# Altium integrated library Texas Instruments Interface I2C.IntLib: 424 symbols (part 22 of 23)
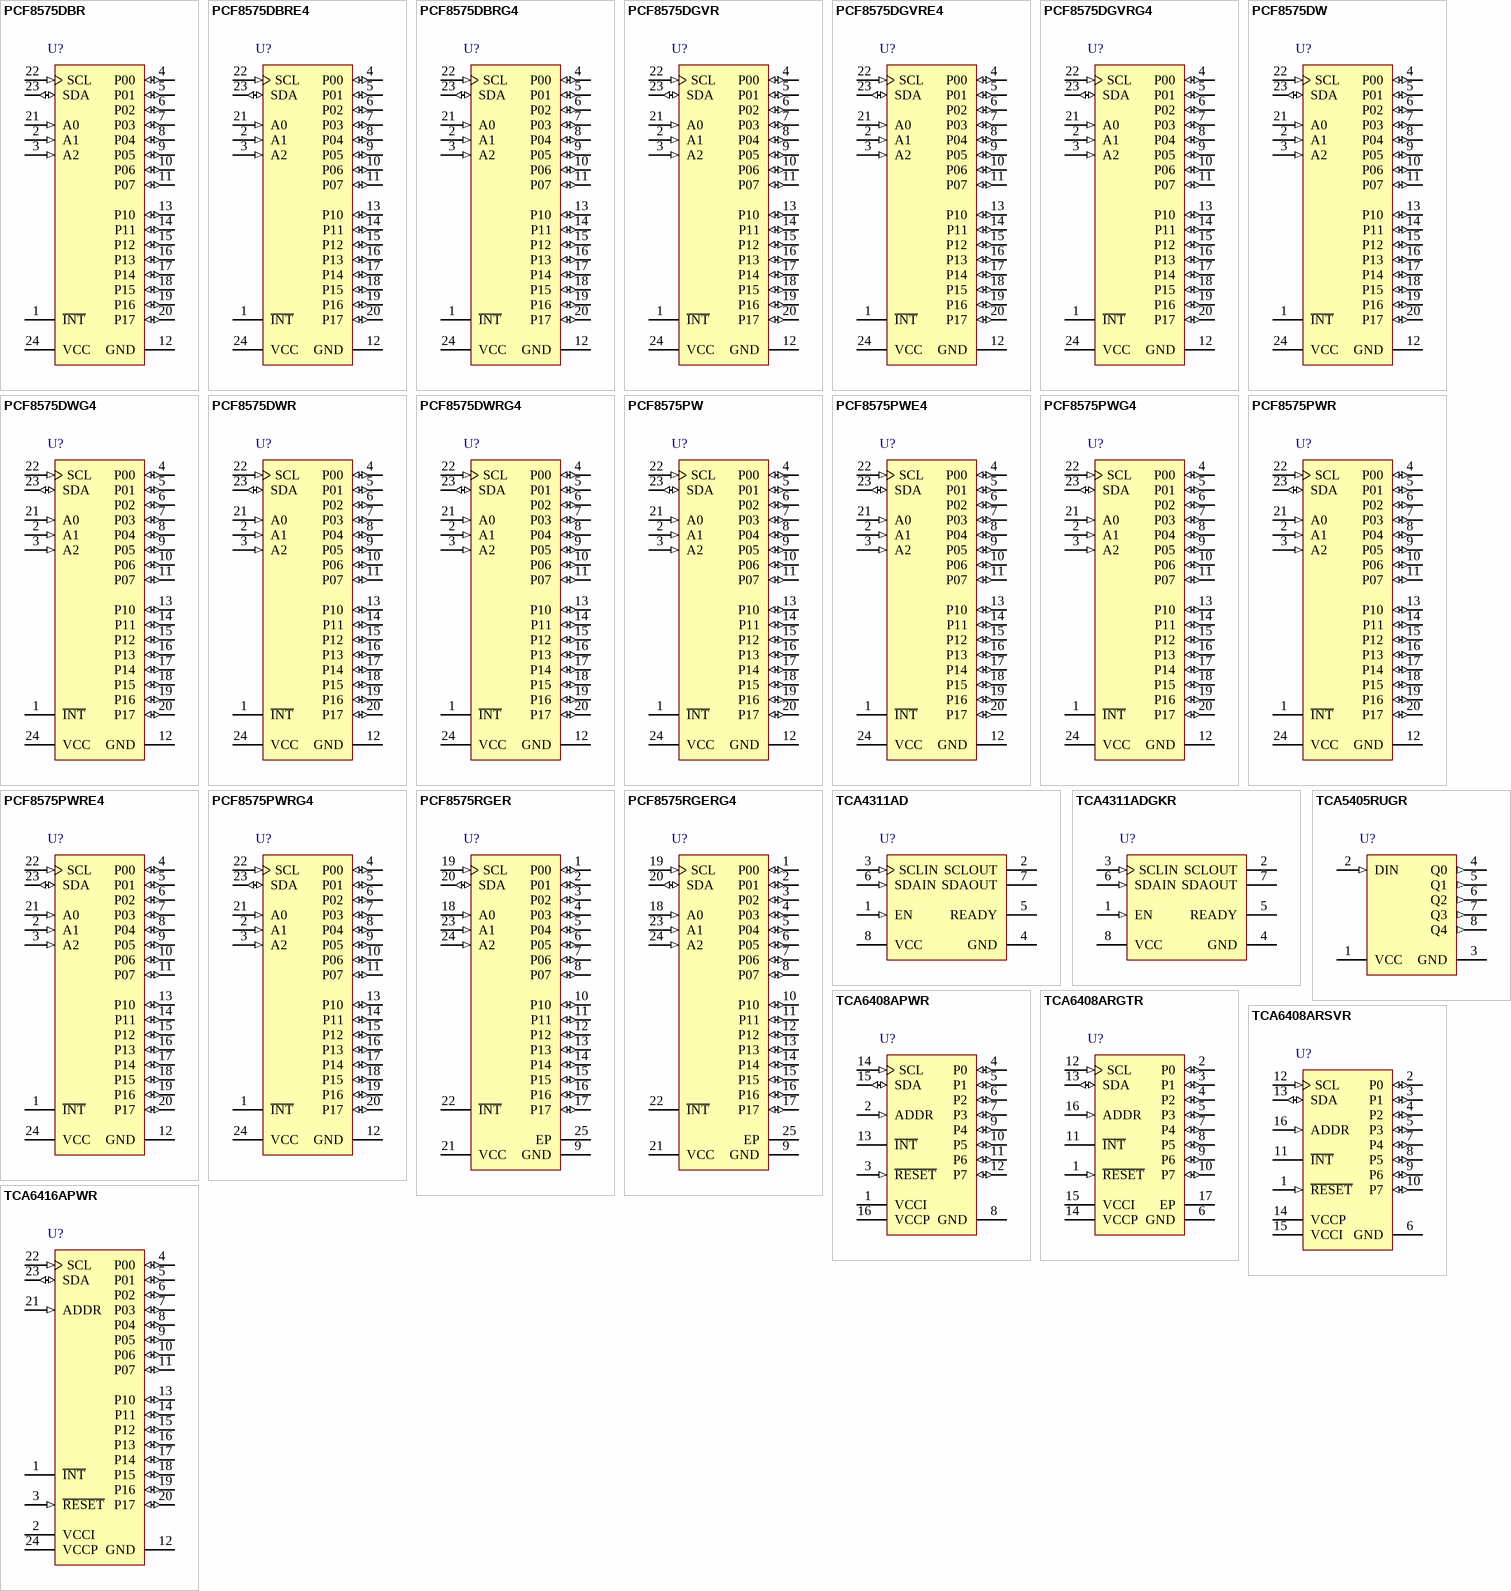
[diagram p34: symbols PCF8575DBR to TCA6416APWR]

## TCA6416APWR
designator U?
Low-Voltage 16-Bit I2C and SMBus I/O Expander, 16 Outputs, 1.65 to 5.5 V, -40 to 85 degC, 24-pin TSSOP (PW), Green (RoHS & no Sb/Br); Manufacturer: Texas Instruments; PartNumber: TCA6416APWR; SubFamily: I2C IO Expander; No. of Outputs: 16; Interrupt Output: Yes; fSCLK(Max)(MHz): 400; VCC(Min)(V): 1.65; VCC(Max)(V): 5.5; I2C Address: 0100 00x; DatasheetVersion: SCPS194A; PackageVersion: revG, Feb-2011; PackageReference: PW24; PackageDescription: 24-Pin Thin Small Outline Package 0.65 mm Pitch; Supplier 1: Arrow; Supplier Part Number 1: 47581856S8237284N7713; Supplier 2: Digi-Key; Supplier Part Number 2: 296-24536-2-ND; Supplier 3: Digi-Key; Supplier Part Number 3: 296-24536-1-ND; Supplier 4: Digi-Key; Supplier Part Number 4: 296-24536-6-ND; Supplier 5: Farnell; Supplier Part Number 5: 2101304; Supplier 6: Newark; Supplier Part Number 6: 10R6151; Supplier 7: Mouser; Supplier Part Number 7: 595-TCA6416APWR; Eco-Plan: Green (RoHS & no Sb/Br); Reset Input: Yes; Max Frequency(kHz): 400; # of I/Os: 16; Vcc range(V): 1.65 to 5.5; Low Power: Yes; Configuration Registers: Yes; 5V Tolerant I/O: Yes; Push-Pull I/O Type: Yes; Mounting Technology: Surface Mount; Code_JEDEC: MO-153; ComponentLink1Description: Datasheet; ComponentLink1URL: http://www.ti.com/general/docs/lit/getliterature.tsp?genericPartNumber=TCA6416A&fileType=pdf; ComponentLink2Description: Package Specification; ComponentLink2URL: http://www.ti.com/litv/pdf/mpds177g
footprint PW24_N (TSOP, 24-Leads, Body 7.8x4.4mm, Pitch 0.65mm, IPC Medium Density)
footprint PW24_L (TSOP, 24-Leads, Body 7.8x4.4mm, Pitch 0.65mm, IPC High Density)
footprint PW24_M (TSOP, 24-Leads, Body 7.8x4.4mm, Pitch 0.65mm, IPC Low Density)
pins: 1 ~{INT} (oc) "Interrupt output. Connect to VCCl or Vccp through a pullup resistor.", 2 VCCI (power) "Supply voltage of I2C bus. Connect directly to the VCC of the external I2C master. Provides voltage leveltranslation", 3 ~{RESET} (in) "Active-low reset input. Connect to VCCI through a pullup resistor, if no active connection is used.", 4 P00 (io) "P-port input/output. (Push-pull design structure). At power-on, P00 is configured as an input.", 5 P01 (io) "P-port input/output. (Push-pull design structure). At power-on, P01 is configured as an input.", 6 P02 (io) "P-port input/output. (Push-pull design structure). At power-on, P02 is configured as an input.", 7 P03 (io) "P-port input/output. (Push-pull design structure). At power-on, P03 is configured as an input.", 8 P04 (io) "P-port input/output. (Push-pull design structure). At power-on, P04 is configured as an input.", 9 P05 (io) "P-port input/output. (Push-pull design structure). At power-on, P05 is configured as an input.", 10 P06 (io) "P-port input/output. (Push-pull design structure). At power-on, P06 is configured as an input.", 11 P07 (io) "P-port input/output. (Push-pull design structure). At power-on, P07 is configured as an input.", 12 GND (power) "Ground", 13 P10 (io) "P-port input/output. (Push-pull design structure). At power-on, P10 is configured as an input.", 14 P11 (io) "P-port input/output. (Push-pull design structure). At power-on, P11 is configured as an input.", 15 P12 (io) "P-port input/output. (Push-pull design structure). At power-on, P12 is configured as an input.", 16 P13 (io) "P-port input/output. (Push-pull design structure). At power-on, P13 is configured as an input.", 17 P14 (io) "P-port input/output. (Push-pull design structure). At power-on, P14 is configured as an input.", 18 P15 (io) "P-port input/output. (Push-pull design structure). At power-on, P15 is configured as an input.", 19 P16 (io) "P-port input/output. (Push-pull design structure). At power-on, P16 is configured as an input.", 20 P17 (io) "P-port input/output. (Push-pull design structure). At power-on, P17 is configured as an input.", 21 ADDR (in) "Address input. Connect directly to VCCP or ground", 22 SCL (in) "Serial clock bus. Connect to VCCI through a pullup resistor.", 23 SDA (io) "Serial data bus. Connect to VCCI through a pullup resistor.", 24 VCCP (power) "Supply voltage of TCA6416A for P port"

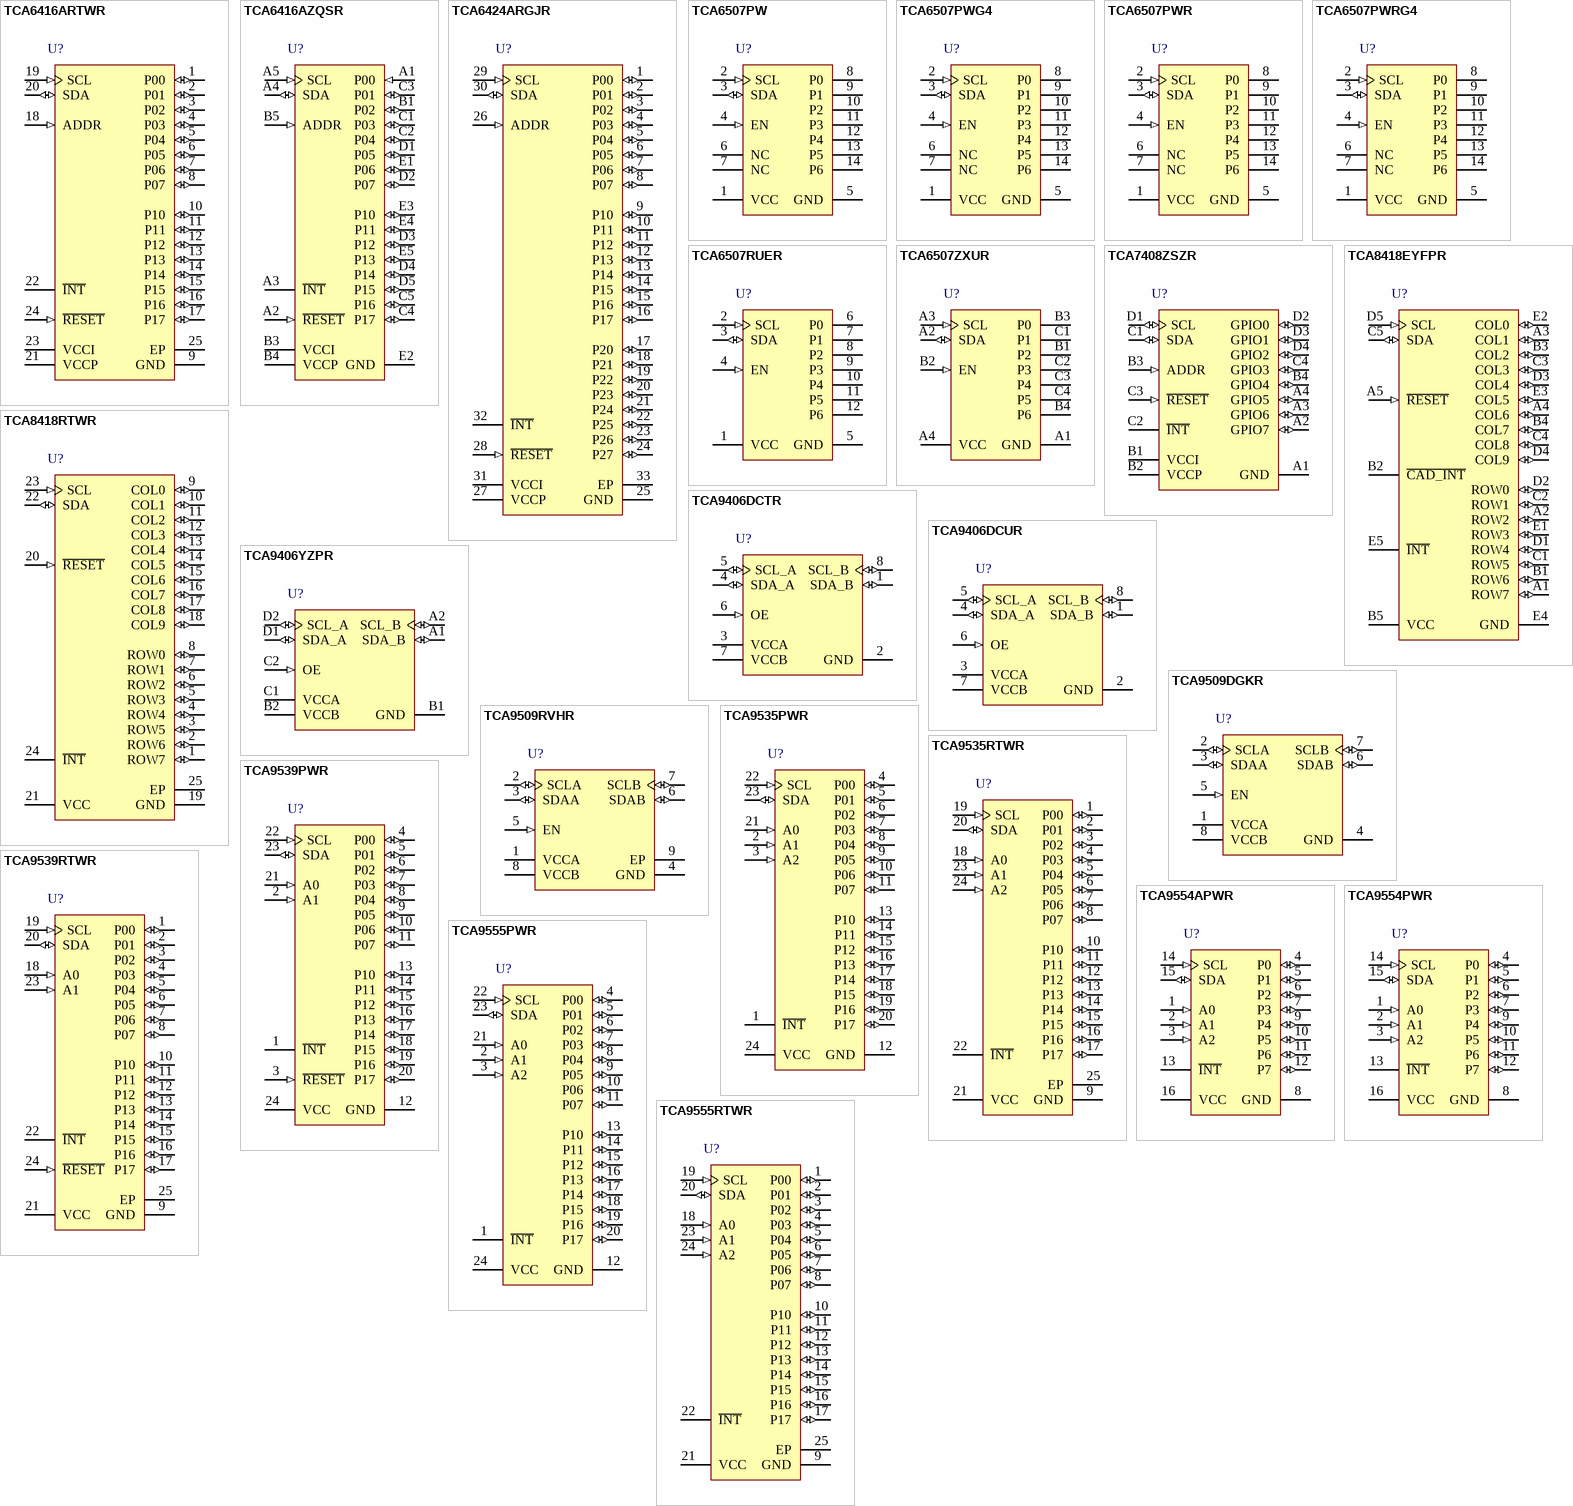
[diagram p13: symbols TCA6416ARTWR to TCA9555RTWR]

## TCA6416ARTWR
designator U?
Low-Voltage 16-Bit I2C and SMBus I/O Expander, 16 Outputs, 1.65 to 5.5 V, -40 to 85 degC, 24-pin QFN (RTW), Green (RoHS & no Sb/Br); Manufacturer: Texas Instruments; PartNumber: TCA6416ARTWR; SubFamily: I2C IO Expander; No. of Outputs: 16; Interrupt Output: Yes; fSCLK(Max)(MHz): 400; VCC(Min)(V): 1.65; VCC(Max)(V): 5.5; I2C Address: 0100 00x; DatasheetVersion: SCPS194A; PackageVersion: Jul-2004; PackageReference: RTW24-2450X2450TP; PackageDescription: 24-Lead Plastic Quad FlatPack, No-Lead, 4x4x0.8mm Body [WQFN]; Supplier 1: Digi-Key; Supplier Part Number 1: 296-24826-2-ND; Supplier 2: Digi-Key; Supplier Part Number 2: 296-24826-1-ND; Supplier 3: Digi-Key; Supplier Part Number 3: 296-24826-6-ND; Supplier 4: Newark; Supplier Part Number 4: 24R9976; Supplier 5: Mouser; Supplier Part Number 5: 595-TCA6416ARTWR; Eco-Plan: Green (RoHS & no Sb/Br); Reset Input: Yes; Max Frequency(kHz): 400; # of I/Os: 16; Vcc range(V): 1.65 to 5.5; Low Power: Yes; Configuration Registers: Yes; 5V Tolerant I/O: Yes; Push-Pull I/O Type: Yes; Mounting Technology: Surface Mount; Code_JEDEC: MO-220; ComponentLink1Description: Datasheet; ComponentLink1URL: http://www.ti.com/general/docs/lit/getliterature.tsp?genericPartNumber=TCA6416A&fileType=pdf
footprint RTW24-2450X2450TP (QFN, 24-Leads, Body 4x4mm, Pitch 0.5mm, Thermal Pad 2.45x2.45mm, TI Recommended)
pins: 1 P00 (io) "P-port input/output. (Push-pull design structure). At power-on, P00 is configured as an input.", 2 P01 (io) "P-port input/output. (Push-pull design structure). At power-on, P01 is configured as an input.", 3 P02 (io) "P-port input/output. (Push-pull design structure). At power-on, P02 is configured as an input.", 4 P03 (io) "P-port input/output. (Push-pull design structure). At power-on, P03 is configured as an input.", 5 P04 (io) "P-port input/output. (Push-pull design structure). At power-on, P04 is configured as an input.", 6 P05 (io) "P-port input/output. (Push-pull design structure). At power-on, P05 is configured as an input.", 7 P06 (io) "P-port input/output. (Push-pull design structure). At power-on, P06 is configured as an input.", 8 P07 (io) "P-port input/output. (Push-pull design structure). At power-on, P07 is configured as an input.", 9 GND (power) "Ground", 10 P10 (io) "P-port input/output. (Push-pull design structure). At power-on, P10 is configured as an input.", 11 P11 (io) "P-port input/output. (Push-pull design structure). At power-on, P11 is configured as an input.", 12 P12 (io) "P-port input/output. (Push-pull design structure). At power-on, P12 is configured as an input.", 13 P13 (io) "P-port input/output. (Push-pull design structure). At power-on, P13 is configured as an input.", 14 P14 (io) "P-port input/output. (Push-pull design structure). At power-on, P14 is configured as an input.", 15 P15 (io) "P-port input/output. (Push-pull design structure). At power-on, P15 is configured as an input.", 16 P16 (io) "P-port input/output. (Push-pull design structure). At power-on, P16 is configured as an input.", 17 P17 (io) "P-port input/output. (Push-pull design structure). At power-on, P17 is configured as an input.", 18 ADDR (in) "Address input. Connect directly to VCCP or ground", 19 SCL (in) "Serial clock bus. Connect to VCCI through a pullup resistor.", 20 SDA (io) "Serial data bus. Connect to VCCI through a pullup resistor.", 21 VCCP (power) "Supply voltage of TCA6416A for P port", 22 ~{INT} (oc) "Interrupt output. Connect to VCCl or Vccp through a pullup resistor.", 23 VCCI (power) "Supply voltage of I2C bus. Connect directly to the VCC of the external I2C master. Provides voltage leveltranslation", 24 ~{RESET} (in) "Active-low reset input. Connect to VCCI through a pullup resistor, if no active connection is used.", 25 EP (power)

## TCA6416AZQSR
designator U?
Low-Voltage 16-Bit I2C and SMBus I/O Expander, 16 Outputs, 1.65 to 5.5 V, -40 to 85 degC, 24-pin BGA MICROSTAR JUNIOR (ZQS), Green (RoHS & no Sb/Br); Manufacturer: Texas Instruments; PartNumber: TCA6416AZQSR; SubFamily: I2C IO Expander; No. of Outputs: 16; Interrupt Output: Yes; fSCLK(Max)(MHz): 400; VCC(Min)(V): 1.65; VCC(Max)(V): 5.5; I2C Address: 0100 00x; DatasheetVersion: SCPS194A; PackageVersion: revA, Sep-2004; PackageReference: ZQS24; PackageDescription: 24-Ball Plastic Ball Grid Array, 3 x 3 mm Body, 0.5 mm Pitch, Pb-Free; Supplier 1: Digi-Key; Supplier Part Number 1: 296-24559-2-ND; Supplier 2: Digi-Key; Supplier Part Number 2: 296-24559-1-ND; Supplier 3: Digi-Key; Supplier Part Number 3: 296-24559-6-ND; Supplier 4: Mouser; Supplier Part Number 4: 595-TCA6416AZQSR; Eco-Plan: Green (RoHS & no Sb/Br); Reset Input: Yes; Max Frequency(kHz): 400; # of I/Os: 16; Vcc range(V): 1.65 to 5.5; Low Power: Yes; Configuration Registers: Yes; 5V Tolerant I/O: Yes; Push-Pull I/O Type: Yes; Mounting Technology: Surface Mount; Code_JEDEC: MO-225; ComponentLink1Description: Datasheet; ComponentLink1URL: http://www.ti.com/general/docs/lit/getliterature.tsp?genericPartNumber=TCA6416A&fileType=pdf; ComponentLink2Description: Package Specification; ComponentLink2URL: http://www.ti.com/litv/pdf/mpbg127b
footprint ZQS24 (BGA, 24-Leads, Body 3x3mm, Pitch 0.5mm)
pins: A1 P00 (in) "P-port input/output. (Push-pull design structure). At power-on, P00 is configured as an input.", A2 ~{RESET} (in) "Active-low reset input. Connect to VCCI through a pullup resistor, if no active connection is used.", A3 ~{INT} (oc) "Interrupt output. Connect to VCCl or Vccp through a pullup resistor.", A4 SDA (io) "Serial data bus. Connect to VCCI through a pullup resistor.", A5 SCL (in) "Serial clock bus. Connect to VCCI through a pullup resistor.", B1 P02 (io) "P-port input/output. (Push-pull design structure). At power-on, P02 is configured as an input.", B3 VCCI (power) "Supply voltage of I2C bus. Connect directly to the VCC of the external I2C master. Provides voltage leveltranslation", B4 VCCP (power) "Supply voltage of TCA6416A for P port", B5 ADDR (in) "Address input. Connect directly to VCCPor ground", C1 P03 (io) "P-port input/output. (Push-pull design structure). At power-on, P03 is configured as an input.", C2 P04 (io) "P-port input/output. (Push-pull design structure). At power-on, P04 is configured as an input.", C3 P01 (io) "P-port input/output. (Push-pull design structure). At power-on, P01 is configured as an input.", C4 P17 (io) "P-port input/output. (Push-pull design structure). At power-on, P17 is configured as an input.", C5 P16 (io) "P-port input/output. (Push-pull design structure). At power-on, P16 is configured as an input.", D1 P05 (io) "P-port input/output. (Push-pull design structure). At power-on, P05 is configured as an input.", D2 P07 (io) "P-port input/output. (Push-pull design structure). At power-on, P07 is configured as an input.", D3 P12 (io) "P-port input/output. (Push-pull design structure). At power-on, P12 is configured as an input.", D4 P14 (io) "P-port input/output. (Push-pull design structure). At power-on, P14 is configured as an input.", D5 P15 (io) "P-port input/output. (Push-pull design structure). At power-on, P15 is configured as an input.", E1 P06 (io) "P-port input/output. (Push-pull design structure). At power-on, P06 is configured as an input.", E2 GND (power) "Ground", E3 P10 (io) "P-port input/output. (Push-pull design structure). At power-on, P10 is configured as an input.", E4 P11 (io) "P-port input/output. (Push-pull design structure). At power-on, P11 is configured as an input.", E5 P13 (io) "P-port input/output. (Push-pull design structure). At power-on, P13 is configured as an input."

## TCA6424ARGJR
designator U?
Low-Voltage 24-Bit I2C and SMBus I/O Expander, 24 Outputs, 1.65 to 5.5 V, -40 to 85 degC, 32-pin UQFN (RGJ), Green (RoHS & no Sb/Br); Manufacturer: Texas Instruments; PartNumber: TCA6424ARGJR; SubFamily: I2C IO Expander; No. of Outputs: 24; Interrupt Output: Yes; VCC(Min)(V): 1.65; VCC(Max)(V): 5.5; Max Frequency(kHz): 400; I2C Address: 0100 01x; DatasheetVersion: SCPS193B; PackageVersion: revD, Apr-2011; PackageReference: RGJ32-3150X3150TP; PackageDescription: 32-Pin Plastic Quad Flatpack No-Lead, 5 x 5 mm Body, 0.5 mm Pitch; Supplier 1: Digi-Key; Supplier Part Number 1: 296-27844-2-ND; Supplier 2: Digi-Key; Supplier Part Number 2: 296-27844-1-ND; Supplier 3: Digi-Key; Supplier Part Number 3: 296-27844-6-ND; Supplier 4: Farnell; Supplier Part Number 4: 1863866; Supplier 5: Newark; Supplier Part Number 5: 01T0713; Supplier 6: Mouser; Supplier Part Number 6: 595-TCA6424ARGJR; Eco-Plan: Green (RoHS & no Sb/Br); Reset Input: Yes; # of I/Os: 24; Vcc range(V): 1.65 to 5.5; Low Power: Yes; Configuration Registers: Yes; 5V Tolerant I/O: Yes; Push-Pull I/O Type: Yes; Mounting Technology: Surface Mount; Code_JEDEC: MO-248-UHHD-1*; ComponentLink1Description: Datasheet; ComponentLink1URL: http://www.ti.com/general/docs/lit/getliterature.tsp?genericPartNumber=TCA6424A&fileType=pdf; ComponentLink2Description: Package Specification; ComponentLink2URL: http://www.ti.com/litv/pdf/mpqf183c
footprint RGJ32-3150X3150TP (QFN, 32-Leads, Body 5x5mm, Pitch 0.5mm, Thermal Pad 3.15x3.15mm, TI Recommended)
pins: 1 P00 (io) "P-port input/output (push-pull design structure). At power on, P00 is configured as an input.", 2 P01 (io) "P-port input/output (push-pull design structure). At power on, P01 is configured as an input.", 3 P02 (io) "P-port input/output (push-pull design structure). At power on, P02 is configured as an input.", 4 P03 (io) "P-port input/output (push-pull design structure). At power on, P03 is configured as an input.", 5 P04 (io) "P-port input/output (push-pull design structure). At power on, P04 is configured as an input.", 6 P05 (io) "P-port input/output (push-pull design structure). At power on, P05 is configured as an input.", 7 P06 (io) "P-port input/output (push-pull design structure). At power on, P06 is configured as an input.", 8 P07 (io) "P-port input/output (push-pull design structure). At power on, P07 is configured as an input.", 9 P10 (io) "P-port input/output (push-pull design structure). At power on, P10 is configured as an input.", 10 P11 (io) "P-port input/output (push-pull design structure). At power on, P11 is configured as an input.", 11 P12 (io) "P-port input/output (push-pull design structure). At power on, P12 is configured as an input.", 12 P13 (io) "P-port input/output (push-pull design structure). At power on, P13 is configured as an input.", 13 P14 (io) "P-port input/output (push-pull design structure). At power on, P14 is configured as an input.", 14 P15 (io) "P-port input/output (push-pull design structure). At power on, P15 is configured as an input.", 15 P16 (io) "P-port input/output (push-pull design structure). At power on, P16 is configured as an input.", 16 P17 (io) "P-port input/output (push-pull design structure). At power on, P17 is configured as an input.", 17 P20 (io) "P-port input/output (push-pull design structure). At power on, P20 is configured as an input.", 18 P21 (io) "P-port input/output (push-pull design structure). At power on, P21 is configured as an input.", 19 P22 (io) "P-port input/output (push-pull design structure). At power on, P22 is configured as an input.", 20 P23 (io) "P-port input/output (push-pull design structure). At power on, P23 is configured as an input.", 21 P24 (io) "P-port input/output (push-pull design structure). At power on, P24 is configured as an input.", 22 P25 (io) "P-port input/output (push-pull design structure). At power on, P25 is configured as an input.", 23 P26 (io) "P-port input/output (push-pull design structure). At power on, P26 is configured as an input.", 24 P27 (io) "P-port input/output (push-pull design structure). At power on, P27 is configured as an input.", 25 GND (power) "Ground", 26 ADDR (in) "Address input. Connect directly to VCCP or ground.", 27 VCCP (power) "Supply voltage of TCA6424A for P port", 28 ~{RESET} (in) "Active-low reset input. Connect to VCCI  through a pullup resistor, if no active connection is used.", 29 SCL (in) "Serial clock bus. Connect to VCCI through a pullup resistor.", 30 SDA (io) "Serial data bus. Connect to VCCI through a pullup resistor.", 31 VCCI (power) "Supply voltage of I2C bus. Connect directly to the VCC of the external I2C master. Provides voltage-level translation.", 32 ~{INT} (oc) "Interrupt output. Connect to VCCI through a pullup resistor.", 33 EP "Exposed thermal pad"

## TCA6507PW
designator U?
Low-Voltage 7-Bit I2C and SMBus LED Driver with Intensity Control and Shutdown, 1.65 to 3.6 V, -40 to 85 degC, 14-pin TSSOP (PW), Green (RoHS & no Sb/Br); Manufacturer: Texas Instruments; PartNumber: TCA6507PW; SubFamily: I2C Special Function; fSCLK(Max)(MHz): 400; VCC(Min)(V): 1.65; VCC(Max)(V): 3.6; I2C Address: 1000101; Enable Pin: Yes; Rating: Catalog; DatasheetVersion: SCPS164B; PackageVersion: revG, Feb-2011; PackageReference: PW14; PackageDescription: 14-Pin Thin Small Outline Package 0.65 mm Pitch; Supplier 1: Digi-Key; Supplier Part Number 1: TCA6507PW-ND; Supplier 2: Farnell; Supplier Part Number 2: 1647813; Supplier 3: Newark; Supplier Part Number 3: 54M7301; Supplier 4: Mouser; Supplier Part Number 4: 595-TCA6507PW; Eco-Plan: Green (RoHS & no Sb/Br); Max Frequency(kHz): 400; Function: LED Driver; Vcc range(V): 1.65 to 3.6; Open Drain I/O Type: Yes; 5V Tolerant I/O: Yes; On-Chip Power-on-Reset: Yes; Mounting Technology: Surface Mount; Code_JEDEC: MO-153; ComponentLink1Description: Datasheet; ComponentLink1URL: http://www.ti.com/general/docs/lit/getliterature.tsp?genericPartNumber=TCA6507&fileType=pdf; ComponentLink2Description: Package Specification; ComponentLink2URL: http://www.ti.com/litv/pdf/mpds177g
footprint PW14_N (TSOP, 14-Leads, Body 5x4.4mm, Pitch 0.65mm, IPC Medium Density)
footprint PW14_L (TSOP, 14-Leads, Body 5x4.4mm, Pitch 0.65mm, IPC High Density)
footprint PW14_M (TSOP, 14-Leads, Body 5x4.4mm, Pitch 0.65mm, IPC Low Density)
pins: 1 VCC (power) "Supply voltage of I2C registers, oscillator and control logic. Connect directly to VCC of the external I2C master. Provides voltage-level translation.", 2 SCL (in) "Serial clock bus. Connect to VCC through a pullup resistor", 3 SDA (io) "Serial data bus. Connect to VCC through a pullup resistor", 4 EN (in) "Enable input. If set to low, it puts the TCA6507 in shutdown mode and resets the internal registers and I2C/SMBus state machine to their default states", 5 GND (power) "Ground", 6 NC "No connection.", 7 NC "No connection.", 8 P0 (oc) "P-port output 0. Open-drain design structure.", 9 P1 (oc) "P-port output 1. Open-drain design structure.", 10 P2 (oc) "P-port output 2. Open-drain design structure.", 11 P3 (oc) "P-port output 3. Open-drain design structure.", 12 P4 (oc) "P-port output 4. Open-drain design structure.", 13 P5 (oc) "P-port output 5. Open-drain design structure.", 14 P6 (oc) "P-port output 6. Open-drain design structure."

## TCA6507PWG4
designator U?
Low-Voltage 7-Bit I2C and SMBus LED Driver with Intensity Control and Shutdown, 1.65 to 3.6 V, -40 to 85 degC, 14-pin TSSOP (PW), Green (RoHS & no Sb/Br); Manufacturer: Texas Instruments; PartNumber: TCA6507PWG4; SubFamily: I2C Special Function; fSCLK(Max)(MHz): 400; VCC(Min)(V): 1.65; VCC(Max)(V): 3.6; I2C Address: 1000101; Enable Pin: Yes; Rating: Catalog; DatasheetVersion: SCPS164B; PackageVersion: revG, Feb-2011; PackageReference: PW14; PackageDescription: 14-Pin Thin Small Outline Package 0.65 mm Pitch; Supplier 1: Digi-Key; Supplier Part Number 1: TCA6507PWG4-ND; Supplier 2: Mouser; Supplier Part Number 2: 595-TCA6507PWG4; Eco-Plan: Green (RoHS & no Sb/Br); Max Frequency(kHz): 400; Function: LED Driver; Vcc range(V): 1.65 to 3.6; Open Drain I/O Type: Yes; 5V Tolerant I/O: Yes; On-Chip Power-on-Reset: Yes; Mounting Technology: Surface Mount; Code_JEDEC: MO-153; ComponentLink1Description: Datasheet; ComponentLink1URL: http://www.ti.com/general/docs/lit/getliterature.tsp?genericPartNumber=TCA6507&fileType=pdf; ComponentLink2Description: Package Specification; ComponentLink2URL: http://www.ti.com/litv/pdf/mpds177g
footprint PW14_N (TSOP, 14-Leads, Body 5x4.4mm, Pitch 0.65mm, IPC Medium Density)
footprint PW14_L (TSOP, 14-Leads, Body 5x4.4mm, Pitch 0.65mm, IPC High Density)
footprint PW14_M (TSOP, 14-Leads, Body 5x4.4mm, Pitch 0.65mm, IPC Low Density)
pins: 1 VCC (power) "Supply voltage of I2C registers, oscillator and control logic. Connect directly to VCC of the external I2C master. Provides voltage-level translation.", 2 SCL (in) "Serial clock bus. Connect to VCC through a pullup resistor", 3 SDA (io) "Serial data bus. Connect to VCC through a pullup resistor", 4 EN (in) "Enable input. If set to low, it puts the TCA6507 in shutdown mode and resets the internal registers and I2C/SMBus state machine to their default states", 5 GND (power) "Ground", 6 NC "No connection.", 7 NC "No connection.", 8 P0 (oc) "P-port output 0. Open-drain design structure.", 9 P1 (oc) "P-port output 1. Open-drain design structure.", 10 P2 (oc) "P-port output 2. Open-drain design structure.", 11 P3 (oc) "P-port output 3. Open-drain design structure.", 12 P4 (oc) "P-port output 4. Open-drain design structure.", 13 P5 (oc) "P-port output 5. Open-drain design structure.", 14 P6 (oc) "P-port output 6. Open-drain design structure."

## TCA6507PWR
designator U?
Low-Voltage 7-Bit I2C and SMBus LED Driver with Intensity Control and Shutdown, 1.65 to 3.6 V, -40 to 85 degC, 14-pin TSSOP (PW), Green (RoHS & no Sb/Br); Manufacturer: Texas Instruments; PartNumber: TCA6507PWR; SubFamily: I2C Special Function; fSCLK(Max)(MHz): 400; VCC(Min)(V): 1.65; VCC(Max)(V): 3.6; I2C Address: 1000101; Enable Pin: Yes; Rating: Catalog; DatasheetVersion: SCPS164B; PackageVersion: revG, Feb-2011; PackageReference: PW14; PackageDescription: 14-Pin Thin Small Outline Package 0.65 mm Pitch; Supplier 1: Digi-Key; Supplier Part Number 1: 296-22777-2-ND; Supplier 2: Digi-Key; Supplier Part Number 2: 296-22777-1-ND; Supplier 3: Digi-Key; Supplier Part Number 3: 296-22777-6-ND; Supplier 4: Newark; Supplier Part Number 4: 54M7302; Supplier 5: Mouser; Supplier Part Number 5: 595-TCA6507PWR; Eco-Plan: Green (RoHS & no Sb/Br); Max Frequency(kHz): 400; Function: LED Driver; Vcc range(V): 1.65 to 3.6; Open Drain I/O Type: Yes; 5V Tolerant I/O: Yes; On-Chip Power-on-Reset: Yes; Mounting Technology: Surface Mount; Code_JEDEC: MO-153; ComponentLink1Description: Datasheet; ComponentLink1URL: http://www.ti.com/general/docs/lit/getliterature.tsp?genericPartNumber=TCA6507&fileType=pdf; ComponentLink2Description: Package Specification; ComponentLink2URL: http://www.ti.com/litv/pdf/mpds177g
footprint PW14_N (TSOP, 14-Leads, Body 5x4.4mm, Pitch 0.65mm, IPC Medium Density)
footprint PW14_L (TSOP, 14-Leads, Body 5x4.4mm, Pitch 0.65mm, IPC High Density)
footprint PW14_M (TSOP, 14-Leads, Body 5x4.4mm, Pitch 0.65mm, IPC Low Density)
pins: 1 VCC (power) "Supply voltage of I2C registers, oscillator and control logic. Connect directly to VCC of the external I2C master. Provides voltage-level translation.", 2 SCL (in) "Serial clock bus. Connect to VCC through a pullup resistor", 3 SDA (io) "Serial data bus. Connect to VCC through a pullup resistor", 4 EN (in) "Enable input. If set to low, it puts the TCA6507 in shutdown mode and resets the internal registers and I2C/SMBus state machine to their default states", 5 GND (power) "Ground", 6 NC "No connection.", 7 NC "No connection.", 8 P0 (oc) "P-port output 0. Open-drain design structure.", 9 P1 (oc) "P-port output 1. Open-drain design structure.", 10 P2 (oc) "P-port output 2. Open-drain design structure.", 11 P3 (oc) "P-port output 3. Open-drain design structure.", 12 P4 (oc) "P-port output 4. Open-drain design structure.", 13 P5 (oc) "P-port output 5. Open-drain design structure.", 14 P6 (oc) "P-port output 6. Open-drain design structure."

## TCA6507PWRG4
designator U?
Low-Voltage 7-Bit I2C and SMBus LED Driver with Intensity Control and Shutdown, 1.65 to 3.6 V, -40 to 85 degC, 14-pin TSSOP (PW), Green (RoHS & no Sb/Br); Manufacturer: Texas Instruments; PartNumber: TCA6507PWRG4; SubFamily: I2C Special Function; fSCLK(Max)(MHz): 400; VCC(Min)(V): 1.65; VCC(Max)(V): 3.6; I2C Address: 1000101; Enable Pin: Yes; Rating: Catalog; DatasheetVersion: SCPS164B; PackageVersion: revG, Feb-2011; PackageReference: PW14; PackageDescription: 14-Pin Thin Small Outline Package 0.65 mm Pitch; Supplier 1: Digi-Key; Supplier Part Number 1: TCA6507PWRG4-ND; Supplier 2: Mouser; Supplier Part Number 2: 595-TCA6507PWRG4; Eco-Plan: Green (RoHS & no Sb/Br); Max Frequency(kHz): 400; Function: LED Driver; Vcc range(V): 1.65 to 3.6; Open Drain I/O Type: Yes; 5V Tolerant I/O: Yes; On-Chip Power-on-Reset: Yes; Mounting Technology: Surface Mount; Code_JEDEC: MO-153; ComponentLink1Description: Datasheet; ComponentLink1URL: http://www.ti.com/general/docs/lit/getliterature.tsp?genericPartNumber=TCA6507&fileType=pdf; ComponentLink2Description: Package Specification; ComponentLink2URL: http://www.ti.com/litv/pdf/mpds177g
footprint PW14_N (TSOP, 14-Leads, Body 5x4.4mm, Pitch 0.65mm, IPC Medium Density)
footprint PW14_L (TSOP, 14-Leads, Body 5x4.4mm, Pitch 0.65mm, IPC High Density)
footprint PW14_M (TSOP, 14-Leads, Body 5x4.4mm, Pitch 0.65mm, IPC Low Density)
pins: 1 VCC (power) "Supply voltage of I2C registers, oscillator and control logic. Connect directly to VCC of the external I2C master. Provides voltage-level translation.", 2 SCL (in) "Serial clock bus. Connect to VCC through a pullup resistor", 3 SDA (io) "Serial data bus. Connect to VCC through a pullup resistor", 4 EN (in) "Enable input. If set to low, it puts the TCA6507 in shutdown mode and resets the internal registers and I2C/SMBus state machine to their default states", 5 GND (power) "Ground", 6 NC "No connection.", 7 NC "No connection.", 8 P0 (oc) "P-port output 0. Open-drain design structure.", 9 P1 (oc) "P-port output 1. Open-drain design structure.", 10 P2 (oc) "P-port output 2. Open-drain design structure.", 11 P3 (oc) "P-port output 3. Open-drain design structure.", 12 P4 (oc) "P-port output 4. Open-drain design structure.", 13 P5 (oc) "P-port output 5. Open-drain design structure.", 14 P6 (oc) "P-port output 6. Open-drain design structure."

## TCA6507RUER
designator U?
Low-Voltage 7-Bit I2C and SMBus LED Driver with Intensity Control and Shutdown, 1.65 to 3.6 V, 12-pin X2QFN (RUE), Green (RoHS & no Sb/Br); Manufacturer: Texas Instruments; PartNumber: TCA6507RUER; SubFamily: I2C Special Function; fSCLK(Max)(MHz): 400; VCC(Min)(V): 1.65; VCC(Max)(V): 3.6; I2C Address: 1000101; Enable Pin: Yes; Rating: Catalog; DatasheetVersion: SCPS164B; PackageVersion: revC, Jul-2008; PackageReference: RUE12; PackageDescription: 12-Leads Plastic Quad Flatpack No-Lead, 2 x 1.4 x 0.37 mm Body, 0.4 mm Pitch; Supplier 1: Digi-Key; Supplier Part Number 1: 296-23111-2-ND; Supplier 2: Digi-Key; Supplier Part Number 2: 296-23111-1-ND; Supplier 3: Digi-Key; Supplier Part Number 3: 296-23111-6-ND; Supplier 4: Newark; Supplier Part Number 4: 73M7826; Supplier 5: Mouser; Supplier Part Number 5: 595-TCA6507RUER; Eco-Plan: Green (RoHS & no Sb/Br); Max Frequency(kHz): 400; Function: LED Driver; Vcc range(V): 1.65 to 3.6; Open Drain I/O Type: Yes; 5V Tolerant I/O: Yes; On-Chip Power-on-Reset: Yes; Mounting Technology: Surface Mount; Code_JEDEC: MO-288-X2DFE; ComponentLink1Description: Datasheet; ComponentLink1URL: http://www.ti.com/general/docs/lit/getliterature.tsp?genericPartNumber=TCA6507&fileType=pdf; ComponentLink2Description: Package Specification; ComponentLink2URL: http://www.ti.com/litv/pdf/mpds360
footprint RUE12_N (QFN, 12-Leads, Body 1.4x2mm, Pitch 0.4mm, IPC Medium Density)
footprint RUE12_L (QFN, 12-Leads, Body 1.4x2mm, Pitch 0.4mm, IPC High Density)
footprint RUE12_M (QFN, 12-Leads, Body 1.4x2mm, Pitch 0.4mm, IPC Low Density)
pins: 1 VCC (power) "Supply voltage of I2C registers, oscillator and control logic. Connect directly to VCC of the external I2C master. Provides voltage-level translation.", 2 SCL (in) "Serial clock bus. Connect to VCC through a pullup resistor", 3 SDA (io) "Serial data bus. Connect to VCC through a pullup resistor", 4 EN (in) "Enable input. If set to low, it puts the TCA6507 in shutdown mode and resets the internal registers and I2C/SMBus state machine to their default states", 5 GND (power) "Ground", 6 P0 (oc) "P-port output 0. Open-drain design structure.", 7 P1 (oc) "P-port output 1. Open-drain design structure.", 8 P2 (oc) "P-port output 2. Open-drain design structure.", 9 P3 (oc) "P-port output 3. Open-drain design structure.", 10 P4 (oc) "P-port output 4. Open-drain design structure.", 11 P5 (oc) "P-port output 5. Open-drain design structure.", 12 P6 (oc) "P-port output 6. Open-drain design structure."

## TCA6507ZXUR
designator U?
Low-Voltage 7-Bit I2C and SMBus LED Driver with Intensity Control and Shutdown, 1.65 to 3.6 V, -40 to 85 degC, 12-pin BGA MICROSTAR JUNIOR (ZXU), Green (RoHS & no Sb/Br); Manufacturer: Texas Instruments; PartNumber: TCA6507ZXUR; SubFamily: I2C Special Function; fSCLK(Max)(MHz): 400; VCC(Min)(V): 1.65; VCC(Max)(V): 3.6; I2C Address: 1000101; Enable Pin: Yes; Rating: Catalog; DatasheetVersion: SCPS164B; PackageVersion: revB, Jun-2005; PackageReference: ZXU12; PackageDescription: 12-Ball Plastic Ball Grid Array, 2 x 2.5 mm Body, 0.5 mm Pitch, Pb-Free; Supplier 1: Digi-Key; Supplier Part Number 1: 296-22778-2-ND; Supplier 2: Digi-Key; Supplier Part Number 2: 296-22778-1-ND; Supplier 3: Digi-Key; Supplier Part Number 3: 296-22778-6-ND; Supplier 4: Mouser; Supplier Part Number 4: 595-TCA6507ZXUR; Eco-Plan: Green (RoHS & no Sb/Br); Max Frequency(kHz): 400; Function: LED Driver; Vcc range(V): 1.65 to 3.6; Open Drain I/O Type: Yes; 5V Tolerant I/O: Yes; On-Chip Power-on-Reset: Yes; Mounting Technology: Surface Mount; ComponentLink1Description: Datasheet; ComponentLink1URL: http://www.ti.com/general/docs/lit/getliterature.tsp?genericPartNumber=TCA6507&fileType=pdf; ComponentLink2Description: Package Specification; ComponentLink2URL: http://www.ti.com/litv/pdf/mpds360
footprint ZXU12 (BGA, 12-Leads, Body 2x2.5mm, Pitch 0.5mm)
pins: A1 GND (power) "Ground", A2 SDA (io) "Serial data bus. Connect to VCC through a pullup resistor.", A3 SCL (in) "Serial clock bus. Connect to VCC through a pullup resistor.", A4 VCC (power) "Supply voltage of I2C registers, oscillator and control logic. Connect directly to VCC of the external I2C master. Provides voltage-level translation.", B1 P2 (oc) "P-port output 2. Open-drain design structure.", B2 EN (in) "Enable input. If set to low, it puts the TCA6507 in shutdown mode and resets the internal registers and I2C/SMBus state machine to their default states", B3 P0 (oc) "P-port output 0. Open-drain design structure.", B4 P6 (oc) "P-port output 6. Open-drain design structure.", C1 P1 (oc) "P-port output 1. Open-drain design structure.", C2 P3 (oc) "P-port output 3. Open-drain design structure.", C3 P4 (oc) "P-port output 4. Open-drain design structure.", C4 P5 (oc) "P-port output 5. Open-drain design structure."

## TCA7408ZSZR
designator U?
Low-voltage 8-bit I2C I/O Expander with Interrupt Output Reset I/O Direction Registers, 8 Outputs, 1.65 to 5.5 V, -40 to 85 degC, 16-pin uCSP (ZSZ), Green (RoHS & no Sb/Br); Manufacturer: Texas Instruments; PartNumber: TCA7408ZSZR; SubFamily: I2C IO Expander; No. of Outputs: 8; Interrupt Output: Yes; VCC(Min)(V): 1.65; VCC(Max)(V): 5.5; Max Frequency(kHz): 400; I2C Address: 0100 00x; DatasheetVersion: SCPS235; PackageVersion: revB, Feb-2011; PackageReference: ZSZ16; PackageDescription: 16-Ball MicrostarCSP, 2 x 2 mm Body, 0.5 mm Pitch, Pb-Free; Supplier 1: Digi-Key; Supplier Part Number 1: 296-30074-2-ND; Supplier 2: Digi-Key; Supplier Part Number 2: 296-30074-1-ND; Supplier 3: Digi-Key; Supplier Part Number 3: 296-30074-6-ND; Supplier 4: Farnell; Supplier Part Number 4: 2080143; Supplier 5: Newark; Supplier Part Number 5: 76T8907; Supplier 6: Newark; Supplier Part Number 6: 76T8037; Supplier 7: Mouser; Supplier Part Number 7: 595-TCA7408ZSZR; Eco-Plan: Green (RoHS & no Sb/Br); Reset Input: Yes; # of I/Os: 8; Vcc range(V): 1.65 to 5.5; Low Power: Yes; Configuration Registers: Yes; Push-Pull I/O Type: Yes; Mounting Technology: Surface Mount; ComponentLink1Description: Datasheet; ComponentLink1URL: http://www.ti.com/general/docs/lit/getliterature.tsp?genericPartNumber=TCA7408&fileType=pdf; ComponentLink2Description: Package Specification; ComponentLink2URL: http://www.ti.com/litv/pdf/mplg043a
footprint ZSZ16 (BGA, 16-Leads, Body 2x2mm, Pitch 0.5mm)
pins: A1 GND (power) "Ground", A2 GPIO7 (io) "GPIO-port input/output (push-pull design structure). At power on, GPIO7 is configured as an input", A3 GPIO6 (io) "GPIO-port input/output (push-pull design structure). At power on, GPIO6 is configured as an input", A4 GPIO5 (io) "GPIO-port input/output (push-pull design structure). At power on, GPIO5 is configured as an input", B1 VCCI (power) "Supply voltage of I2C bus. Connect directly to the VCCI of the external I2C master. Provides voltage leveltranslation", B2 VCCP (power) "Supply voltage of TCA7408 for GPIO-port", B3 ADDR (in) "Address input. Connect directly to VCCI or ground", B4 GPIO4 (io) "GPIO-port input/output (push-pull design structure). At power on, GPIO4 is configured as an input", C1 SDA (io) "Serial data bus. Connect to VCCI through a pull-up resistor", C2 ~{INT} (oc) "Active-low interrupt output. Connect to VCCI through a pull-up resistor", C3 ~{RESET} (in) "Active-low reset input. Connect to VCCI through a pull-up resistor, if no active connection is used", C4 GPIO3 (io) "GPIO-port input/output (push-pull design structure). At power on, GPIO3 is configured as an input", D1 SCL (io) "Serial clock bus. Connect to VCCI through a pull-up resistor", D2 GPIO0 (io) "GPIO-port input/output (push-pull design structure). At power on, GPIO0 is configured as an input", D3 GPIO1 (io) "GPIO-port input/output (push-pull design structure). At power on, GPIO1 is configured as an input", D4 GPIO2 (io) "GPIO-port input/output (push-pull design structure). At power on, GPIO2 is configured as an input"

## TCA8418EYFPR
designator U?
I2C Controlled Keypad Scan IC with integrated ESD Protection, 1.65 to 3.6 V, -40 to 85 degC, 25-pin DSBGA (YFP), Green (RoHS & no Sb/Br); Manufacturer: Texas Instruments; PartNumber: TCA8418EYFPR; SubFamily: I2C Special Function; No. of Outputs: 18; tpd max(ns): 120; VCC(Min)(V): -0.5; VCC(Max)(V): 4.6; Max Frequency(kHz): 1000; Function: Keypad Scan IC with ESD; I2C Address: 110100; Push-Pull I/O Type: Yes; Rating: Catalog; DatasheetVersion: SCPS222B; PackageVersion: revR, Feb-2012; PackageReference: YFP25; PackageDescription: 25-Ball Die-Size Ball Grid Array 0.4 mm Pitch, Pb-Free (DSBGA); Supplier 1: Digi-Key; Supplier Part Number 1: 296-27864-2-ND; Supplier 2: Digi-Key; Supplier Part Number 2: 296-27864-1-ND; Supplier 3: Digi-Key; Supplier Part Number 3: 296-27864-6-ND; Supplier 4: Farnell; Supplier Part Number 4: 1862840; Supplier 5: Newark; Supplier Part Number 5: 01T0714; Supplier 6: Mouser; Supplier Part Number 6: 595-TCA8418EYFPR; Eco-Plan: Green (RoHS & no Sb/Br); Vcc range(V): 1.65 to 3.6; Enable Pin: No; Open Drain I/O Type: No; 5V Tolerant I/O: No; On-Chip Power-on-Reset: Yes; Mounting Technology: Surface Mount; ComponentLink1Description: Datasheet; ComponentLink1URL: http://www.ti.com/general/docs/lit/getliterature.tsp?genericPartNumber=TCA8418E&fileType=pdf; ComponentLink2Description: Package Specification; ComponentLink2URL: http://www.ti.com/litv/pdf/mxbg084k
footprint YFP25 (BGA, 25-Leads, Body 2.06x2.06mm, Pitch 0.4mm)
pins: A1 ROW7 (io) "GPIO or row 7 in keypad matrix", A2 ROW2 (io) "GPIO or row 2 in keypad matrix", A3 COL1 (io) "GPIO or column 1 in keypad matrix", A4 COL6 (io) "GPIO or column 6 in keypad matrix", A5 ~{RESET} (in) "Active-low reset input. Connect to VCC through a pullup resistor, if no active connection is used.", B1 ROW6 (io) "GPIO or row 6 in keypad matrix", B2 ~{CAD_INT} (oc) "Active-low interrupt hardware output for 3-key simultaneous press-event. Open drain structure. Connect to VCC through a pullup resistor.", B3 COL2 (io) "GPIO or column 2 in keypad matrix", B4 COL7 (io) "GPIO or column 7 in keypad matrix", B5 VCC (power) "Supply voltage of 1.65 V to 3.6 V", C1 ROW5 (io) "GPIO or row 5 in keypad matrix", C2 ROW1 (io) "GPIO or row 1 in keypad matrix", C3 COL3 (io) "GPIO or column 3 in keypad matrix", C4 COL8 (io) "GPIO or column 8 in keypad matrix", C5 SDA (io) "Serial data bus. Connect to VCC through a pullup resistor.", D1 ROW4 (io) "GPIO or row 4 in keypad matrix", D2 ROW0 (io) "GPIO or row 0 in keypad matrix", D3 COL4 (io) "GPIO or column 4 in keypad matrix", D4 COL9 (io) "GPIO or column 9 in keypad matrix", D5 SCL (in) "Serial clock bus. Connect to VCC through a pullup resistor.", E1 ROW3 (io) "GPIO or row 3 in keypad matrix", E2 COL0 (io) "GPIO or column 0 in keypad matrix", E3 COL5 (io) "GPIO or column 5 in keypad matrix", E4 GND (power) "Ground", E5 ~{INT} (oc) "Active-low interrupt output. Open drain structure. Connect to VCC through a pullup resistor."

## TCA8418RTWR
designator U?
I2C Controlled Keypad Scan IC, 1.65 to 3.6 V, -40 to 85 degC, 24-pin QFN (RTW), Green (RoHS & no Sb/Br); Manufacturer: Texas Instruments; PartNumber: TCA8418RTWR; SubFamily: I2C Special Function; Max Frequency(kHz): 1000; I2C Address: 110100; Push-Pull I/O Type: Yes; Rating: Catalog; DatasheetVersion: SCPS215B; PackageVersion: Jul-2004; PackageReference: RTW24-2450X2450TP; PackageDescription: 24-Lead Plastic Quad FlatPack, No-Lead, 4x4x0.8mm Body [WQFN]; Supplier 1: Digi-Key; Supplier Part Number 1: 296-25223-2-ND; Supplier 2: Digi-Key; Supplier Part Number 2: 296-25223-1-ND; Supplier 3: Digi-Key; Supplier Part Number 3: 296-25223-6-ND; Supplier 4: Newark; Supplier Part Number 4: 50R7921; Supplier 5: Mouser; Supplier Part Number 5: 595-TCA8418RTWR; Eco-Plan: Green (RoHS & no Sb/Br); Function: Keypad Scan; Vcc range(V): 1.65 to 3.6; Enable Pin: No; Open Drain I/O Type: No; 5V Tolerant I/O: No; On-Chip Power-on-Reset: Yes; Mounting Technology: Surface Mount; Code_JEDEC: MO-220; ComponentLink1Description: Datasheet; ComponentLink1URL: http://www.ti.com/general/docs/lit/getliterature.tsp?genericPartNumber=TCA8418&fileType=pdf
footprint RTW24-2450X2450TP (QFN, 24-Leads, Body 4x4mm, Pitch 0.5mm, Thermal Pad 2.45x2.45mm, TI Recommended)
pins: 1 ROW7 (io) "GPIO or row 7 in keypad matrix", 2 ROW6 (io) "GPIO or row 6 in keypad matrix", 3 ROW5 (io) "GPIO or row 5 in keypad matrix", 4 ROW4 (io) "GPIO or row 4 in keypad matrix", 5 ROW3 (io) "GPIO or row 3 in keypad matrix", 6 ROW2 (io) "GPIO or row 2 in keypad matrix", 7 ROW1 (io) "GPIO or row 1 in keypad matrix", 8 ROW0 (io) "GPIO or row 0 in keypad matrix", 9 COL0 (io) "GPIO or column 0 in keypad matrix", 10 COL1 (io) "GPIO or column 1 in keypad matrix", 11 COL2 (io) "GPIO or column 2 in keypad matrix", 12 COL3 (io) "GPIO or column 3 in keypad matrix", 13 COL4 (io) "GPIO or column 4 in keypad matrix", 14 COL5 (io) "GPIO or column 5 in keypad matrix", 15 COL6 (io) "GPIO or column 6 in keypad matrix", 16 COL7 (io) "GPIO or column 7 in keypad matrix", 17 COL8 (io) "GPIO or column 8 in keypad matrix", 18 COL9 (io) "GPIO or column 9 in keypad matrix", 19 GND (power) "Ground", 20 ~{RESET} (in) "Active-low reset input. Connect to VCC through a pullup resistor, if no active connection is used.", 21 VCC (power) "Supply voltage of 1.65 V to 3.6 V", 22 SDA (io) "Serial data bus. Connect to VCC through a pullup resistor.", 23 SCL (in) "Serial clock bus. Connect to VCC through a pullup resistor.", 24 ~{INT} (oc) "Active-low interrupt output. Open drain structure. Connect to VCC through a pullup resistor.", 25 EP "Exposed Pad"

## TCA9406DCTR
designator U?
TCA9406 Dual Bidirectional 1-MHz I2C-BUS and SMBus Voltage Level-Translator, 1.65 to 3.6 V, -40 to 85 degC, 8-pin SM8 (DCT), Green (RoHS & no Sb/Br); Manufacturer: Texas Instruments; PartNumber: TCA9406DCTR; SubFamily: I2C Special Function; No. of Outputs: 2; VCC(Min)(V): -0.5; VCC(Max)(V): 4.6; Max Frequency(kHz): 1000; Function: I2C Voltage Level Translator; Enable Pin: Yes; Rating: Catalog; DatasheetVersion: SCPS221; PackageVersion: revC, Sep-2002; PackageReference: DCT8; PackageDescription: 8-Pin Thin Small Outline Package 3 x 2.8 mm Body ,0.65 mm Pitch; Supplier 1: Digi-Key; Supplier Part Number 1: 296-28108-2-ND; Supplier 2: Digi-Key; Supplier Part Number 2: 296-28108-1-ND; Supplier 3: Digi-Key; Supplier Part Number 3: 296-28108-6-ND; Supplier 4: Farnell; Supplier Part Number 4: 1972384; Supplier 5: Farnell; Supplier Part Number 5: 1972384RL; Supplier 6: Newark; Supplier Part Number 6: 59T0097; Supplier 7: Newark; Supplier Part Number 7: 24T4759; Supplier 8: Mouser; Supplier Part Number 8: 595-TCA9406DCTR; Eco-Plan: Green (RoHS & no Sb/Br); Vcc range(V): 1.65 to 3.6; Open Drain I/O Type: Yes; 5V Tolerant I/O: Yes; Push-Pull I/O Type: Yes; On-Chip Power-on-Reset: No; Mounting Technology: Surface Mount; Code_JEDEC: MO-187-DA; ComponentLink1Description: Datasheet; ComponentLink1URL: http://www.ti.com/general/docs/lit/getliterature.tsp?genericPartNumber=TCA9406&fileType=pdf; ComponentLink2Description: Package Specification; ComponentLink2URL: http://www.ti.com/litv/pdf/mpds049b
footprint DCT8_N (TSOP, 8-Leads, Body 3x2.8mm, Pitch 0.65mm, IPC Medium Density)
footprint DCT8_L (TSOP, 8-Leads, Body 3x2.8mm, Pitch 0.65mm, IPC High Density)
footprint DCT8_M (TSOP, 8-Leads, Body 3x2.8mm, Pitch 0.65mm, IPC Low Density)
pins: 1 SDA_B (io) "Input/output B. Referenced to VCCB. Allow I2C_SDA configured to 2.5V/3.3V/5V", 2 GND (power) "Ground", 3 VCCA (power) "A-port supply voltage. 1.65  VCCA =<3.6 V and VCCA =< VCCB. Configuration for SDA_A, SCL_A, and OE", 4 SDA_A (io) "Input/output A. Referenced to VCCA. Allows I2C_SDA configured to 1.8V, 2.5V, 3.3V", 5 SCL_A (io) "Input/output A. Referenced to VCCA. Allows I2C_SCL configured to 1.8V, 2.5V, 3.3V", 6 OE (in) "Output enable (active High). Pull OE low to place all outputs in 3-state mode.Referenced to VCCA. Pull OE to LOW to place all outputs in 3-state mode with 3.6V input tolerance.", 7 VCCB (power) "B-port supply voltage. 2.3 V =< VCCB =< 5.5 V for SDA_B, SCL_B", 8 SCL_B (io) "Input/output B. Referenced to VCCB. Allow I2C_SCL configured to 2.5V/3.3V/5V"

## TCA9406DCUR
designator U?
TCA9406 Dual Bidirectional 1-MHz I2C-BUS and SMBus Voltage Level-Translator, 1.65 to 3.6 V, -40 to 85 degC, 8-pin US8 (DCU), Green (RoHS & no Sb/Br); Manufacturer: Texas Instruments; PartNumber: TCA9406DCUR; SubFamily: I2C Special Function; No. of Outputs: 2; VCC(Min)(V): -0.5; VCC(Max)(V): 4.6; Max Frequency(kHz): 1000; Function: I2C Voltage Level Translator; Enable Pin: Yes; Rating: Catalog; DatasheetVersion: SCPS221; PackageVersion: revF, Jul-2005; PackageReference: DCU8; PackageDescription: 8-Pin Thin Shrink Small Outline Package 0.5 mm Pitch; Supplier 1: Digi-Key; Supplier Part Number 1: 296-28109-2-ND; Supplier 2: Digi-Key; Supplier Part Number 2: 296-28109-1-ND; Supplier 3: Digi-Key; Supplier Part Number 3: 296-28109-6-ND; Supplier 4: Farnell; Supplier Part Number 4: 1972385; Supplier 5: Newark; Supplier Part Number 5: 59T0098; Supplier 6: Newark; Supplier Part Number 6: 24T4760; Supplier 7: Mouser; Supplier Part Number 7: 595-TCA9406DCUR; Eco-Plan: Green (RoHS & no Sb/Br); Vcc range(V): 1.65 to 3.6; Open Drain I/O Type: Yes; 5V Tolerant I/O: Yes; Push-Pull I/O Type: Yes; On-Chip Power-on-Reset: No; Mounting Technology: Surface Mount; Code_JEDEC: MO-187-CA; ComponentLink1Description: Datasheet; ComponentLink1URL: http://www.ti.com/general/docs/lit/getliterature.tsp?genericPartNumber=TCA9406&fileType=pdf; ComponentLink2Description: Package Specification; ComponentLink2URL: http://www.ti.com/litv/pdf/mpds050d
footprint DCU8_N (TSSOP, 8-Leads, Body 2x2.3mm, Pitch 0.5mm, IPC Medium Density)
footprint DCU8_L (TSSOP, 8-Leads, Body 2x2.3mm, Pitch 0.5mm, IPC High Density)
footprint DCU8_M (TSSOP, 8-Leads, Body 2x2.3mm, Pitch 0.5mm, IPC Low Density)
pins: 1 SDA_B (io) "Input/output B. Referenced to VCCB. Allow I2C_SDA configured to 2.5V/3.3V/5V", 2 GND (power) "Ground", 3 VCCA (power) "A-port supply voltage.1.65=< VCCA =< 3.6 V and VCCA =< VCCB. Configuration for SDA_A,SCL_A and OE", 4 SDA_A (io) "Input/output A. Referenced to VCCA. Allows I2C_SDA configured to 1.8V, 2.5V, 3.3V", 5 SCL_A (io) "Input/output A. Referenced to VCCA. Allows I2C_SCL configured to 1.8V, 2.5V, 3.3V", 6 OE (in) "Output enable (active High). Pull OE low to place all outputs in 3-state mode.Referenced to VCCA. Pull OE to LOW to place all outputs in 3-state mode with 3.6V input tolerance.", 7 VCCB (power) "B-port supply voltage. 2.3 V =< VCCB =<5.5 V for SDA_B, SCL_B", 8 SCL_B (io) "Input/output B. Referenced to VCCB. Allow I2C_SCL configured to 2.5V/3.3V/5V"

## TCA9406YZPR
designator U?
TCA9406 Dual Bidirectional 1-MHz I2C-BUS and SMBus Voltage Level-Translator, 1.65 to 3.6 V, -40 to 85 degC, 8-pin DSBGA (YZP), Green (RoHS & no Sb/Br); Manufacturer: Texas Instruments; PartNumber: TCA9406YZPR; SubFamily: I2C Special Function; No. of Outputs: 2; VCC(Min)(V): -0.5; VCC(Max)(V): 4.6; Max Frequency(kHz): 1000; Function: I2C Voltage Level Translator; Enable Pin: Yes; Rating: Catalog; DatasheetVersion: SCPS221; PackageVersion: revI, Feb-2012; PackageReference: YZP8; PackageDescription: 8-Ball Die-Size Ball Grid Array, 1.9 x 0.9 mm Body, 0.5 mm Pitch, Pb-Free; Supplier 1: Digi-Key; Supplier Part Number 1: 296-29698-2-ND; Supplier 2: Digi-Key; Supplier Part Number 2: 296-29698-1-ND; Supplier 3: Digi-Key; Supplier Part Number 3: 296-29698-6-ND; Supplier 4: Newark; Supplier Part Number 4: 71T5397; Supplier 5: Mouser; Supplier Part Number 5: 595-TCA9406YZPR; Eco-Plan: Green (RoHS & no Sb/Br); Vcc range(V): 1.65 to 3.6; Open Drain I/O Type: Yes; 5V Tolerant I/O: Yes; Push-Pull I/O Type: Yes; On-Chip Power-on-Reset: No; Mounting Technology: Surface Mount; ComponentLink1Description: Datasheet; ComponentLink1URL: http://www.ti.com/general/docs/lit/getliterature.tsp?genericPartNumber=TCA9406&fileType=pdf; ComponentLink2Description: Package Specification; ComponentLink2URL: http://www.ti.com/litv/pdf/msoi002j
footprint YZP8 (BGA, 8-Leads, Body 1.9x0.9mm, Pitch 0.5mm)
pins: A1 SDA_B (io) "Input/output B. Referenced to VCCB. Allow I2C_SDA configured to 2.5V/3.3V/5V", A2 SCL_B (io) "Input/output B. Referenced to VCCB. Allow I2C_SCL configured to 2.5V/3.3V/5V", B1 GND (power) "Ground", B2 VCCB (power) "B-port supply voltage. 2.3 V=< VCCB=< 5.5 V for SDA_B, SCL_B", C1 VCCA (power) "A-port supply voltage. 1.65 V=< VCCA=< 3.6 V and VCCA=< VCCB. Configuration for SDA_A, SCL_A, and OE", C2 OE (in) "Output enable (active High). Pull OE low to place all outputs in 3-state mode. Referenced to VCCA. Pull OE to  LOW to place all outputs in 3-state mode with 3.6V input tolerance.", D1 SDA_A (io) "Input/output A. Referenced to VCCA. Allows I2C_SDA configured to 1.8V, 2.5V, 3.3V", D2 SCL_A (io) "Input/output A. Referenced to VCCA. Allows I2C_SCL configured to 1.8V, 2.5V, 3.3V"

## TCA9509DGKR
designator U?
Level Translating I2C Bus Repeater, 2.7 to 5.5 V, -40 to 85 degC, 8-pin MSOP (DGK), Green (RoHS & no Sb/Br); Manufacturer: Texas Instruments; PartNumber: TCA9509DGKR; SubFamily: I2C Hub, Buffer, Repeater; fSCLK(Max)(MHz): 0.4; VCC(Max)(V): 5.5; VCC(Min)(V): 2.7; Max Frequency(kHz): 400; Open Drain I/O Type: Yes; DatasheetVersion: SCPS225B; PackageVersion: revE, May-2006; PackageReference: DGK8; PackageDescription: 8-Pin Thin Small Outline Package 3 x 3 mm Body ,0.65 mm Pitch; Supplier 1: Digi-Key; Supplier Part Number 1: 296-30283-2-ND; Supplier 2: Digi-Key; Supplier Part Number 2: 296-30283-1-ND; Supplier 3: Digi-Key; Supplier Part Number 3: 296-30283-6-ND; Supplier 4: Newark; Supplier Part Number 4: 82T4188; Supplier 5: Mouser; Supplier Part Number 5: 595-TCA9509DGKR; Eco-Plan: Green (RoHS & no Sb/Br); Vcc range(V): 2.7 to 5.5; Master Side I2C Bus Capacitance Supported(pF): 400; Slave Side I2C Bus Capacitance Supported(pF): 400; Enable Pin: Yes; Mounting Technology: Surface Mount; Code_JEDEC: MO-187-AA; ComponentLink1Description: Datasheet; ComponentLink1URL: http://www.ti.com/general/docs/lit/getliterature.tsp?genericPartNumber=TCA9509&fileType=pdf; ComponentLink2Description: Package Specification; ComponentLink2URL: http://www.ti.com/litv/pdf/msoi002j
footprint DGK8_N (TSOP, 8-Leads, Body 3x3mm, Pitch 0.65mm, IPC Medium Density)
footprint DGK8_L (TSOP, 8-Leads, Body 3x3mm, Pitch 0.65mm, IPC High Density)
footprint DGK8_M (TSOP, 8-Leads, Body 3x3mm, Pitch 0.65mm, IPC Low Density)
pins: 1 VCCA (power) "A-side supplyVoltage (0.9V to VCCB - 1V)", 2 SCLA (io) "Serial clock bus, A side.", 3 SDAA (io) "Serial data bus, A side.", 4 GND (power) "Supply ground", 5 EN (in) "Active-high repeater enable input", 6 SDAB (io) "Serial data bus, B side. Connect to VCCB through a pullup resistor.", 7 SCLB (io) "Serial clock bus, B side. Connect to VCCB through a pullup resistor.", 8 VCCB (power) "B-side and device supplyVoltage (2.7V to 5.5V)"